# EAGLE library part DGD0506AM10-13 (library parts)
Gate Drivers HV Gate Driver MSOP-10 T&R 2.5K Source: Datasheet <https://www.diodes.com/assets/Datasheets/DGD0506A.pdf>
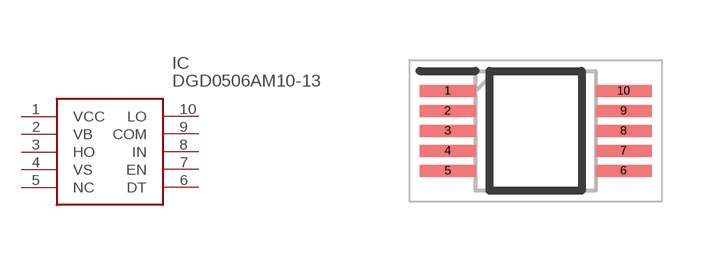
[diagram p2: symbol with the pads of SOP50P490X110-10N; footprint SOP50P490X110-10N]

Designator prefix IC

## DGD0506AM10-13 (DESCRIPTION: Gate Drivers HV Gate Driver MSOP-10 T&R 2.5K; HEIGHT: 1.1mm; MANUFACTURER_NAME: Diodes Inc.; MANUFACTURER_PART_NUMBER: DGD0506AM10-13; MOUSER_PART_NUMBER: 621-DGD0506AM10-13; MOUSER_PRICE-STOCK: https://www.mouser.com/Search/Refine.aspx?Keyword=621-DGD0506AM10-13; RS_PART_NUMBER: 1827336P; RS_PRICE-STOCK: http://uk.rs-online.com/web/p/products/1827336P)  [SOP50P490X110-10N]
1  VCC
2  VB
3  HO
4  VS
5  NC  nc
6  DT
7  EN
8  IN
9  COM
10  LO

## Footprint SOP50P490X110-10N (pad centres in mm)
DGD0506AM10-MSOP-10
smd 1.4 x 0.3: 1 -2.2,1; 2 -2.2,0.5; 3 -2.2,0; 4 -2.2,-0.5; 5 -2.2,-1; 6 2.2,-1; 7 2.2,-0.5; 8 2.2,0; 9 2.2,0.5; 10 2.2,1